# EAGLE library part ARDUINO-MICRO (library rseries)
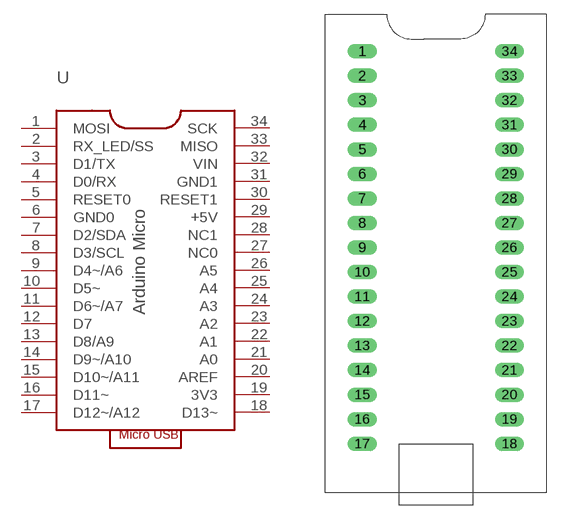
[diagram p1: symbol with the pads of ARDUINO-MICRO-DIP34; footprint ARDUINO-MICRO-DIP34]

Designator prefix -

## ARDUINO-MICRO  [ARDUINO-MICRO-DIP34]
1  MOSI
2  RX_LED/SS
3  D1/TX
4  D0/RX
5  RESET0
6  GND0
7  D2/SDA
8  D3/SCL
9  D4~/A6
10  D5~
11  D6~/A7
12  D7
13  D8/A9
14  D9~/A10
15  D10~/A11
16  D11~
17  D12~/A12
18  D13~
19  3V3
20  AREF
21  A0
22  A1
23  A2
24  A3
25  A4
26  A5
27  NC0
28  NC1
29  +5V
30  RESET1
31  GND1
32  VIN
33  MISO
34  SCK

## Footprint ARDUINO-MICRO-DIP34 (pad centres in mm)
drill 1.016 long: 1 -7.62,19.05; 2 -7.62,16.51; 3 -7.62,13.97; 4 -7.62,11.43; 5 -7.62,8.89; 6 -7.62,6.35; 7 -7.62,3.81; 8 -7.62,1.27; 9 -7.62,-1.27; 10 -7.62,-3.81; 11 -7.62,-6.35; 12 -7.62,-8.89; 13 -7.62,-11.43; 14 -7.62,-13.97; 15 -7.62,-16.51; 16 -7.62,-19.05; 17 -7.62,-21.59; 18 7.62,-21.59; 19 7.62,-19.05; 20 7.62,-16.51; 21 7.62,-13.97; 22 7.62,-11.43; 23 7.62,-8.89; 24 7.62,-6.35; 25 7.62,-3.81; 26 7.62,-1.27; 27 7.62,1.27; 28 7.62,3.81; 29 7.62,6.35; 30 7.62,8.89; 31 7.62,11.43; 32 7.62,13.97; 33 7.62,16.51; 34 7.62,19.05